# Altium schematic symbol library Schlib1.SchLib: 30 symbols
Pins are listed as number, name and electrical type; pins without a type are passive.

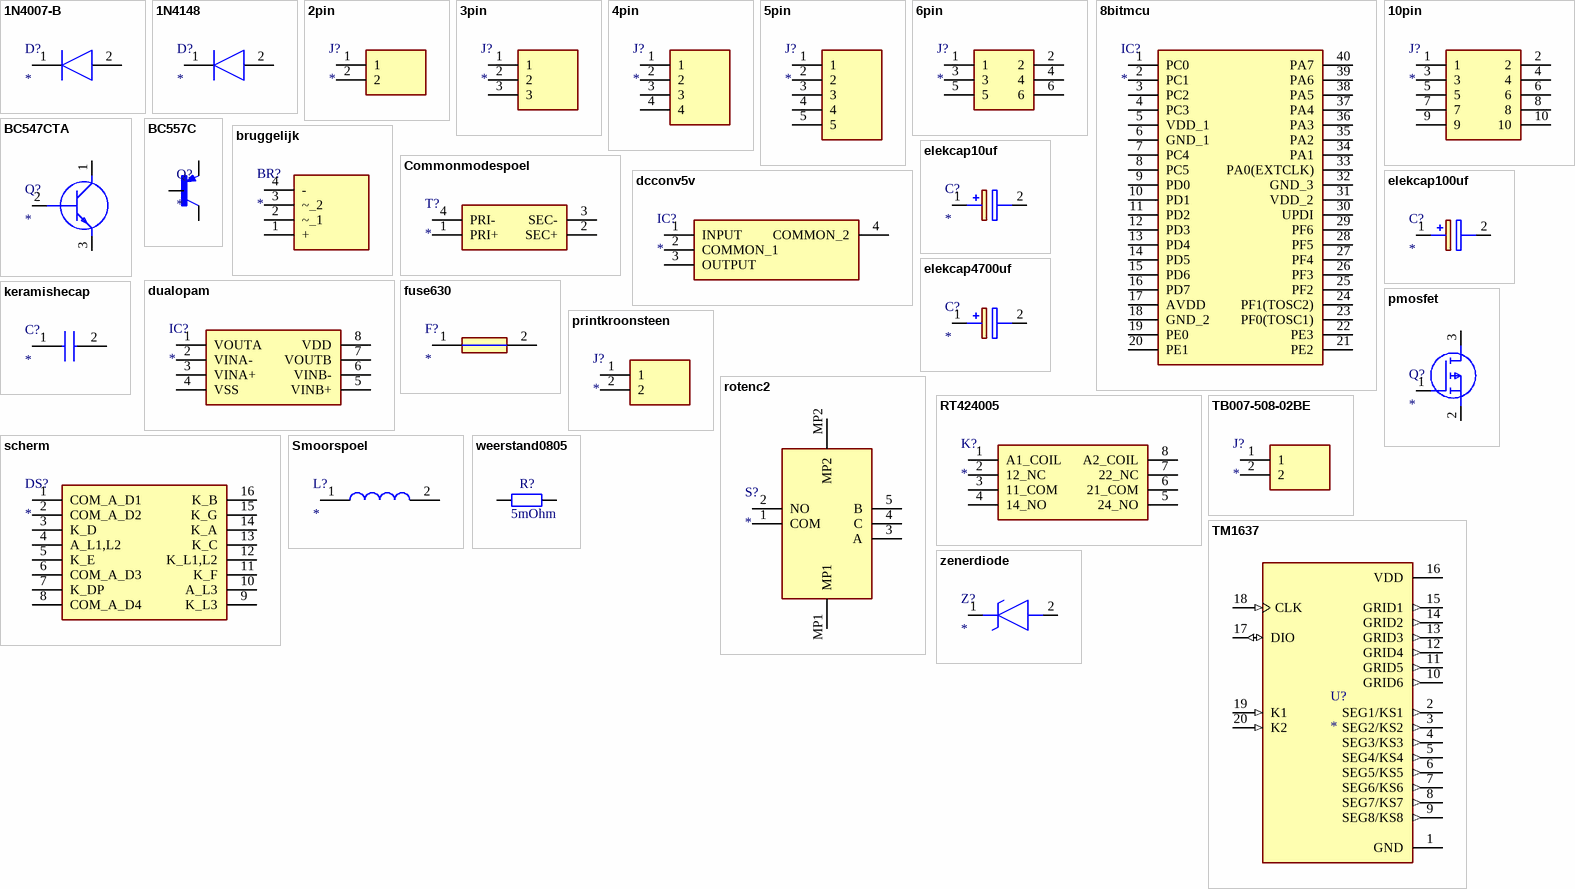
[diagram p0: symbols 1N4007-B to zenerdiode]

## 1N4007-B
designator D?
Diode; Manufacturer_Name: Rectron; Manufacturer_Part_Number: 1N4007-B; Description: Rectifiers Vr/1000V Io/1A BULK; Datasheet Link: https://www.arrow.com/en/products/1n4007-b/rectron
footprint 1n4007
pins: 1 K, 2 A

## 1N4148
designator D?
Diode; Manufacturer_Name: Nexperia; Manufacturer_Part_Number: 1N4148; Datasheet Link: https://datasheet.datasheetarchive.com/originals/distributors/Datasheets-112/DSAP0040891.pdf
footprint diode1N4148
pins: 1 K, 2 A

## 2pin
designator J?
Connector; Manufacturer_Name: Amphenol; Manufacturer_Part_Number: 10129378-902001BLF; Datasheet Link: https://www.mouser.co.uk/datasheet/2/18/10129378-1530218.pdf; Height: 8.43mm
footprint 2pin
pins: 1, 2

## 3pin
designator J?
Connector; Manufacturer_Name: Amphenol; Manufacturer_Part_Number: 10129378-903001BLF; Height: 8.58mm
footprint 3pin
pins: 1, 2, 3

## 4pin
designator J?
Connector; Manufacturer_Name: Amphenol; Manufacturer_Part_Number: 10129378-904001BLF; Datasheet Link: https://cdn.amphenol-icc.com/media/wysiwyg/files/drawing/10129378.pdf; Height: 8.58mm
footprint 4pin
pins: 1, 2, 3, 4

## 5pin
designator J?
Connector; Manufacturer_Name: FCI Electronics; Manufacturer_Part_Number: 10129378-905001BLF; Datasheet Link: https://cdn.amphenol-icc.com/media/wysiwyg/files/drawing/10129378.pdf; Height: 8.58mm
footprint 5pin
pins: 1, 2, 3, 4, 5

## 6pin
designator J?
Connector; Manufacturer_Name: Amphenol; Manufacturer_Part_Number: 10129381-906002BLF; Datasheet Link: https://componentsearchengine.com//10129381-906002BLF.pdf; Height: 8.58mm; Mouser2 Part Number: 649-1012938190602BLF; Mouser2 Price/Stock: https://www.mouser.com/Search/Refine.aspx?Keyword=649-1012938190602BLF
footprint 6pin
pins: 1, 2, 3, 4, 5, 6

## 8bitmcu
designator IC?
Integrated Circuit; Manufacturer_Name: Microchip; Manufacturer_Part_Number: ATMEGA4809-PF; Datasheet Link: https://componentsearchengine.com//ATMEGA4809-PF.pdf; Height: 6.35mm; Mouser2 Part Number: 556-ATMEGA4809-PF; Mouser2 Price/Stock: https://www.mouser.com/Search/Refine.aspx?Keyword=556-ATMEGA4809-PF
footprint 8bitmcu
pins: 1 PC0, 2 PC1, 3 PC2, 4 PC3, 5 VDD_1, 6 GND_1, 7 PC4, 8 PC5, 9 PD0, 10 PD1, 11 PD2, 12 PD3, 13 PD4, 14 PD5, 15 PD6, 16 PD7, 17 AVDD, 18 GND_2, 19 PE0, 20 PE1, 21 PE2, 22 PE3, 23 PF0(TOSC1), 24 PF1(TOSC2), 25 PF2, 26 PF3, 27 PF4, 28 PF5, 29 PF6, 30 UPDI, 31 VDD_2, 32 GND_3, 33 PA0(EXTCLK), 34 PA1, 35 PA2, 36 PA3, 37 PA4, 38 PA5, 39 PA6, 40 PA7

## 10pin
designator J?
Connector; Manufacturer_Name: TE Connectivity; Manufacturer_Part_Number: 5103309-1; Datasheet Link: https://www.te.com/commerce/DocumentDelivery/DDEController?Action=showdoc&DocId=Customer+Drawing%7F5103309%7FE1%7Fpdf%7FEnglish%7FENG_CD_5103309_E1.pdf%7F5103309-1; Height: 9.855mm
footprint 10pin
pins: 1, 2, 3, 4, 5, 6, 7, 8, 9, 10

## BC547CTA
designator Q?
Transistor BJT NPN; Manufacturer_Name: ON Semiconductor; Manufacturer_Part_Number: BC547CTA; Description: Transistor GP NPN 45V 0.1A TO92; Datasheet Link: http://www.onsemi.com/pub/Collateral/BC550-D.pdf
footprint bc447
pins: 1 C, 2 B, 3 E

## BC557C
designator Q?
Bipolar (BJT) Transistor PNP 30V 100mA 150MHz 500mW Through Hole TO-92-3; MP: BC557CZL1G; Package: None; Price: None; Value: *; Availability: Unavailable
footprint bc557c
pins: 1 C, 2 B, 3 E

## bruggelijk
designator BR?
Bridge Rectifier; Manufacturer_Name: Vishay; Manufacturer_Part_Number: GBU6J-E3/45; Datasheet Link: http://www.vishay.com/docs/88615/gbu6a.pdf; Height: 18.8mm
footprint bruggelijk
pins: 1 +, 2 ~_1, 3 ~_2, 4 -

## Commonmodespoel
designator T?
Transformer; Manufacturer_Name: Laird Technologies; Manufacturer_Part_Number: CM2545X171B-10; Datasheet Link: https://datasheet.datasheetarchive.com/originals/dk/DKDS-7/122753.pdf; Height: 9.5mm
footprint commonmodespoel
pins: 1 PRI+, 2 SEC+, 3 SEC-, 4 PRI-

## dcconv5v
designator IC?
Integrated Circuit; Manufacturer_Name: Texas Instruments; Manufacturer_Part_Number: TL780-05CKTTR; Datasheet Link: http://www.ti.com/general/docs/suppproductinfo.tsp?distId=26&gotoUrl=http%3A%2F%2Fwww.ti.com%2Flit%2Fgpn%2Ftl780; Height: 5.08mm
footprint dcconv5v
pins: 1 INPUT, 2 COMMON_1, 3 OUTPUT, 4 COMMON_2

## dualopam
designator IC?
Integrated Circuit; Manufacturer_Name: Microchip; Manufacturer_Part_Number: MCP6002-E/P; Datasheet Link: https://componentsearchengine.com//MCP6002-E_P.pdf; Height: 5.334mm; Mouser2 Part Number: 579-MCP6002-E/P; Mouser2 Price/Stock: https://www.mouser.com/Search/Refine.aspx?Keyword=579-MCP6002-E%2FP
footprint dualopam
pins: 1 VOUTA, 2 VINA-, 3 VINA+, 4 VSS, 5 VINB+, 6 VINB-, 7 VOUTB, 8 VDD

## elekcap10uf
designator C?
Capacitor Polarised; Manufacturer_Name: Panasonic; Manufacturer_Part_Number: EEU-FR1H100; Datasheet Link: https://componentsearchengine.com//EEU-FR1H100.pdf; Height: 12.5mm; Mouser2 Part Number: 667-EEU-FR1H100; Mouser2 Price/Stock: https://www.mouser.com/Search/Refine.aspx?Keyword=667-EEU-FR1H100
footprint elekcap10uf
pins: 1 + (power), 2 - (power)

## elekcap100uf
designator C?
Capacitor Polarised; Manufacturer_Name: Kemet; Manufacturer_Part_Number: ESH107M050AG3KA; Datasheet Link: https://connect.kemet.com:7667/gateway/IntelliData-ComponentDocumentation/1.0/download/specsheet/ESH107M050AG3KA; Height: 12.5mm
footprint elekcap100uf
pins: 1 +, 2 -

## elekcap4700uf
designator C?
Capacitor Polarised; Manufacturer_Name: Kemet; Manufacturer_Part_Number: ESK478M050AQ3AA; Datasheet Link: https://componentsearchengine.com//ESK478M050AQ3AA.pdf; Height: 37mm; Mouser2 Part Number: 80-ESK478M050AQ3AA; Mouser2 Price/Stock: https://www.mouser.com/Search/Refine.aspx?Keyword=80-ESK478M050AQ3AA
footprint Elekcap4700uf
pins: 1 +, 2 -

## fuse630
designator F?
Fuse; Manufacturer_Name: Bourns; Manufacturer_Part_Number: SF-2410SP063W-2; Datasheet Link: https://www.bourns.com/docs/Product-Datasheets/SF-2410SPxxxW.pdf; Height: 2.36mm
footprint fuse630
pins: 1, 2

## keramishecap
designator C?
Capacitor; Manufacturer_Name: Kemet; Manufacturer_Part_Number: C1206C104K3GACAUTO; Datasheet Link: https://www.kemet.com/specsheet/C1206C104K3GACAUTO; Height: 1.8mm
footprint 0805 (Metal Plate Resistor, SMT, body size 2x1.25mm)
pins: 1, 2

## pmosfet
designator Q?
MOSFET (P-Channel); Manufacturer_Name: Infineon; Manufacturer_Part_Number: IRF9Z34NPBF; Datasheet Link: https://componentsearchengine.com//IRF9Z34NPBF.pdf; Height: 4.69mm; Mouser2 Part Number: 942-IRF9Z34NPBF; Mouser2 Price/Stock: https://www.mouser.com/Search/Refine.aspx?Keyword=942-IRF9Z34NPBF
footprint pmosfet
pins: 1 G, 2 S, 3 D

## printkroonsteen
designator J?
Connector; Manufacturer_Name: CUI Inc.; Manufacturer_Part_Number: TB007-508-02BE; Datasheet Link: https://componentsearchengine.com//TB007-508-02BE.pdf; Height: 14mm; Mouser2 Part Number: 490-TB007-508-02BE; Mouser2 Price/Stock: https://www.mouser.com/Search/Refine.aspx?Keyword=490-TB007-508-02BE
footprint printkroonsteen
pins: 1, 2

## rotenc2
designator S?
Switch; Manufacturer_Name: Wurth Elektronik; Manufacturer_Part_Number: 482016514001; Description: Mechanical Incremental Encoder Switch; Datasheet Link: https://componentsearchengine.com//482016514001.pdf; Height: 26.9mm; Mouser2 Part Number: 710-482016514001; Mouser2 Price/Stock: https://www.mouser.com/Search/Refine.aspx?Keyword=710-482016514001
footprint rotenc2
pins: 1 COM, 2 NO, 3 A, 4 C, 5 B, MP1, MP2

## RT424005
designator K?
Relay or Contactor; Manufacturer_Name: TE Connectivity; Manufacturer_Part_Number: RT424005; Datasheet Link: https://componentsearchengine.com//RT424005.pdf; Mouser2 Part Number: 655-RT424005; Mouser2 Price/Stock: https://www.mouser.com/Search/Refine.aspx?Keyword=655-RT424005
footprint RT42 relais
pins: 1 A1_COIL, 2 12_NC, 3 11_COM, 4 14_NO, 5 24_NO, 6 21_COM, 7 22_NC, 8 A2_COIL

## scherm
designator DS?
Display; Manufacturer_Name: Vishay; Manufacturer_Part_Number: TDCG1050M; Datasheet Link: https://componentsearchengine.com//TDCG1050M.pdf; Height: 7.25mm; Mouser2 Part Number: 78-TDCG1050; Mouser2 Price/Stock: https://www.mouser.com/Search/Refine.aspx?Keyword=78-TDCG1050
footprint sherm
pins: 1 COM_A_D1, 2 COM_A_D2, 3 K_D, 4 A_L1,L2, 5 K_E, 6 COM_A_D3, 7 K_DP, 8 COM_A_D4, 9 K_L3, 10 A_L3, 11 K_F, 12 K_L1,L2, 13 K_C, 14 K_A, 15 K_G, 16 K_B

## Smoorspoel
designator L?
Inductor; Manufacturer_Name: Murata Electronics; Manufacturer_Part_Number: LQM18FN1R0M00D; Datasheet Link: https://psearch.en.murata.com/inductor/product/LQM18FN1R0M00%23.html; Height: 0.9mm
footprint Smoorspoel
pins: 1, 2

## TB007-508-02BE
designator J?
Connector; Manufacturer_Name: CUI Inc.; Manufacturer_Part_Number: TB007-508-02BE; Datasheet Link: https://componentsearchengine.com//TB007-508-02BE.pdf; Height: 14mm; Mouser2 Part Number: 490-TB007-508-02BE; Mouser2 Price/Stock: https://www.mouser.com/Search/Refine.aspx?Keyword=490-TB007-508-02BE
footprint TB00750802BE
pins: 1, 2

## TM1637
designator U?
LED Drive Control Special Circuit; MF: Titan Micro Electronics; MP: TM1637; Package: Package; Availability: Not in stock; SnapEDA_Link: https://www.snapeda.com/parts/TM1637/Titan+Micro+Electronics/view-part/?ref=snap; Check_prices: https://www.snapeda.com/parts/TM1637/Titan+Micro+Electronics/view-part/?ref=eda; Value: *; Price: None
footprint ledic
pins: 1 GND (power), 2 SEG1/KS1 (out), 3 SEG2/KS2 (out), 4 SEG3/KS3 (out), 5 SEG4/KS4 (out), 6 SEG5/KS5 (out), 7 SEG6/KS6 (out), 8 SEG7/KS7 (out), 9 SEG8/KS8 (out), 10 GRID6 (out), 11 GRID5 (out), 12 GRID4 (out), 13 GRID3 (out), 14 GRID2 (out), 15 GRID1 (out), 16 VDD (power), 17 DIO (io), 18 CLK (in), 19 K1 (in), 20 K2 (in)

## weerstand0805
designator R?, comment 5mOhm
WRIS-PSMB SMT Metal Plate Resistor, size 0805, 5mOhm, 0.5W; Manufacturer: Wurth Elektronik; Manufacturer Part Number: 580060720003; Rated Current: 10A; Temperature Coefficient of Resistance: +/-100ppm/degC; Technical Reference: MB0805R005F102KAATP0000; Resistance Tolerance: +/-1%; ComponentLink1Description: Manufacturer; ComponentLink1URL: http://www.we-online.de; ComponentLink2Description: Datasheet; ComponentLink2URL: https://www.we-online.com/catalog/datasheet/580060720003.pdf; Rated Power: 0.5W; Resistance: 5mOhm; Mounting Technology: SMT; Height: 0.35mm; Packaging: Tape and Reel; Published Date: May 2020; Size: 0805; Length: 2mm; Operating Temperature: -55 to +155degC; Width: 1.25mm
footprint 0805 (Metal Plate Resistor, SMT, body size 2x1.25mm)
pins: 1, 2

## zenerdiode
designator Z?
Zener Diode; Manufacturer_Name: Vishay; Manufacturer_Part_Number: TZMC5V1-GS08; Datasheet Link: https://componentsearchengine.com/Datasheets/2/TZMC5V1-GS08.pdf; Height: 1.6mm
footprint zenerdiode
pins: 1 K, 2 A